# Altium footprint library ECWF2475JA.PcbLib: 1 footprints
Each footprint in its own frame and in the unit in brackets; x right, y up, seen from the top. Pads: shape width x height; smd on the part's side, far side on the other; paste and mask are expansions set on the pad; w line width, h text height; cw(c..) or ccw(c..) is an arc to the next point about the centre after c.
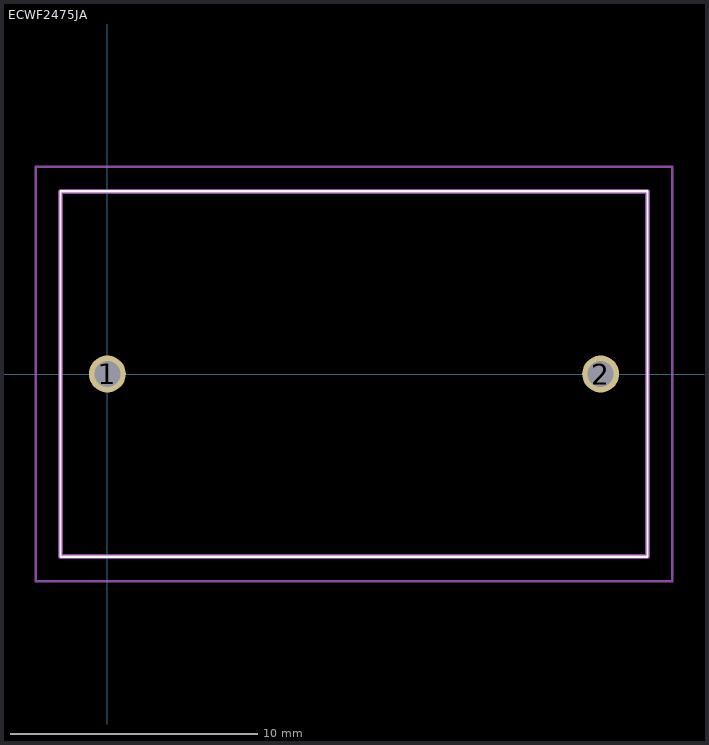
[diagram p0: the footprint, top view; thin cyan lines are the x and y axes]

## ECWF2475JA [mm]
pads (2):
  round 1.5 hole 1.05: 1(0,0) 2(20,0)
Top Overlay:
  lines w0.1: -1.9,-7.4 21.9,-7.4 21.9,7.4 -1.9,7.4 -1.9,-7.4
Mechanical 15:
  lines w0.2: -1.9,-7.4 21.9,-7.4 21.9,7.4 -1.9,7.4 -1.9,-7.4
Mechanical 20:
  lines w0.1: -2.9,-8.4 22.9,-8.4 22.9,8.4 -2.9,8.4 -2.9,-8.4